# Altium integrated library Texas Instruments Interface Equalizer and Redriver.IntLib: 53 symbols (part 3 of 4)
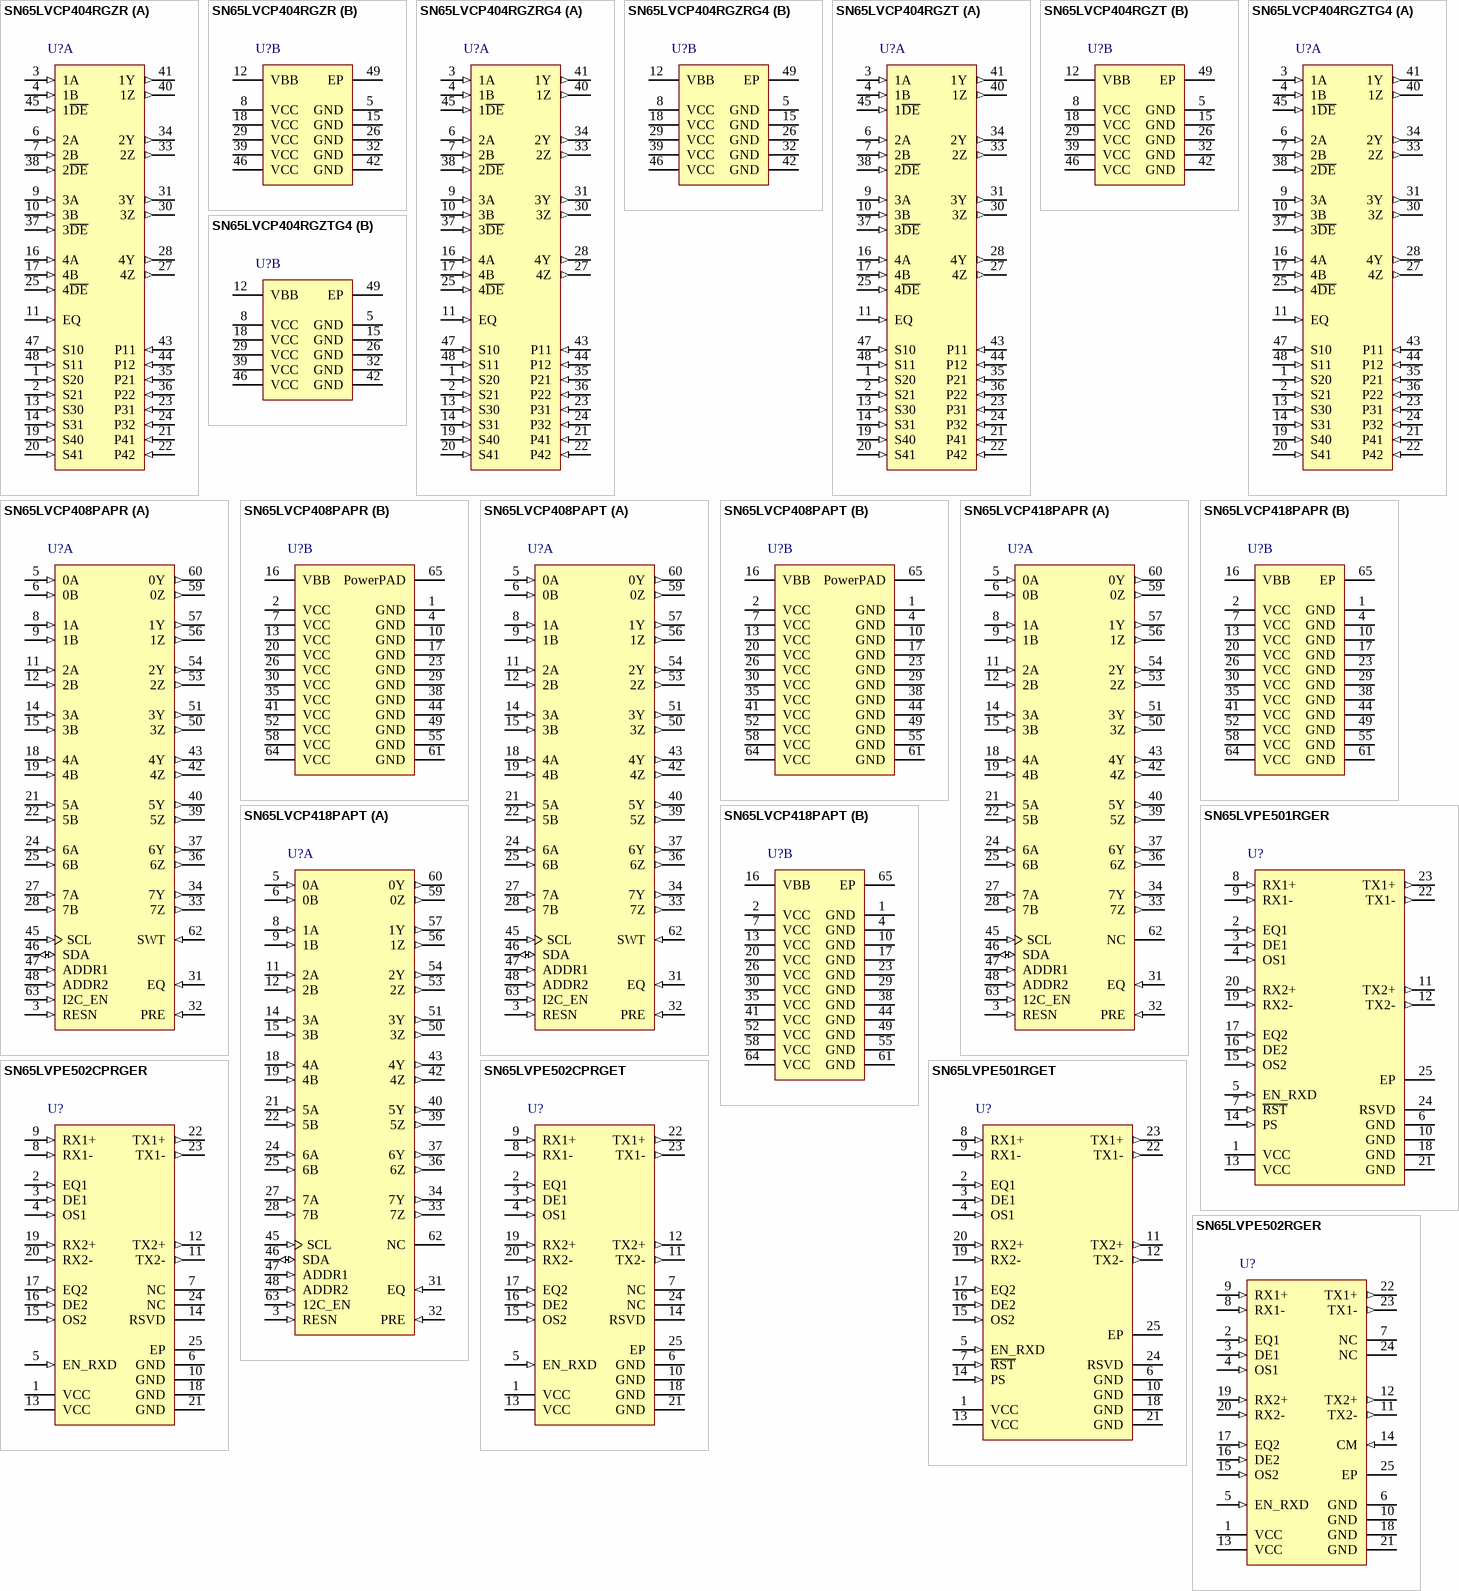
[diagram p4: symbols SN65LVCP404RGZR to SN65LVPE502RGER]

## SN65LVPE502CPRGET
designator U?
Dual Channel USB3.0 Redriver / Equalizer, 5 Gbps, 3.3V, 0 to 85 degC, 24-Pin VQFN (RGE), Green (RoHS & no Sb/Br); PartNumber: SN65LVPE502CPRGET; Manufacturer: Texas Instruments; Speed(Max)(Gbps): 5; Number of Channels: 2; SupplyVoltage(Volt): 3.3; ICC(Max)(mA): 120; IN SigCon: EQ; OUT SigCon: DE; Input Compatibility: AC-Coupled, CML; Function: Repeater, Redriver, Equalizer"; DatasheetVersion: SLLSE79B; PackageVersion: revG, Jul-2011; PackageReference: RGE24-2100X2100TP; PackageDescription: 24-Pin Plastic Quad Flatpack No-Lead, 4 x 4 mm Body, 0.5 mm Pitch; Mounting Technology: Surface Mount; Eco-Plan: Green (RoHS & no Sb/Br); Protocols: USB 3.0; Output Compatibility: AC-Coupled, CML; ESD HBM(kV): 5; Sleep Mode Power(mW): 5; Code_JEDEC: MO-220; ComponentLink1Description: Datasheet; ComponentLink1URL: http://www.ti.com/general/docs/lit/getliterature.tsp?genericPartNumber=SN65LVPE502CP&fileType=pdf; ComponentLink2Description: Package Specification; ComponentLink2URL: http://www.ti.com/litv/pdf/mpqf124f
footprint RGE24-2100X2100TP (QFN, 24-Leads, Body 4x4mm, Pitch 0.5mm, Thermal Pad 2.1x2.1mm, TI Recommended)
pins: 1 VCC (power) "Positive supply should be 3.3V +/- 10%", 2 EQ1 (in) "Selects equalization settings for CH 1 and CH 2 per Table 2. Internally tied to Vcc/2", 3 DE1 (in) "Selects de-emphasis settings for CH 1 and CH 2 per Table 2. Internally tied to Vcc/2", 4 OS1 (in) "Selects output amplitude for CH 1 and CH 2 per Table 2. Internally tied to Vcc/2", 5 EN_RXD (in) "Sets device operation modes per Table 2. Internally pulled to VCC", 6 GND (power) "Supply ground", 7 NC "Pads are not internally connected", 8 RX1- (in) "Non-inverting and inverting CML differential input for CH 1 and CH 2. These pins are tied to an internal voltage bias by dual termination resistor circuit.", 9 RX1+ (in) "Non-inverting and inverting CML differential input for CH 1 and CH 2. These pins are tied to an internal voltage bias by dual termination resistor circuit.", 10 GND (power) "Supply ground", 11 TX2- (out) "Non-inverting and inverting VML differential output for CH 1 and CH 2. These pins are internally tied to voltage bias by termination resistors.", 12 TX2+ (out) "Non-inverting and inverting VML differential output for CH 1 and CH 2. These pins are internally tied to voltage bias by termination resistors.", 13 VCC (power) "Positive supply should be 3.3V +/- 10%", 14 RSVD "RSVD, internally pulled to GND. Can be left as No-connect.", 15 OS2 (in) "Selects output amplitude for CH 1 and CH 2 per Table 2. Internally tied to Vcc/2", 16 DE2 (in) "Selects de-emphasis settings for CH 1 and CH 2 per Table 2. Internally tied to Vcc/2", 17 EQ2 (in) "Selects equalization settings for CH 1 and CH 2 per Table 2. Internally tied to Vcc/2", 18 GND (power) "Supply ground", 19 RX2+ (in) "Non-inverting and inverting CML differential input for CH 1 and CH 2. These pins are tied to an internal voltage bias by dual termination resistor circuit.", 20 RX2- (in) "Non-inverting and inverting CML differential input for CH 1 and CH 2. These pins are tied to an internal voltage bias by dual termination resistor circuit.", 21 GND (power) "Supply ground", 22 TX1+ (out) "Non-inverting and inverting VML differential output for CH 1 and CH 2. These pins are internally tied to voltage bias by termination resistors.", 23 TX1- (out) "Non-inverting and inverting VML differential output for CH 1 and CH 2. These pins are internally tied to voltage bias by termination resistors.", 24 NC "Pads are not internally connected", 25 EP (power) "Thermal Pad  (must be soldered to GND plane)"

## SN65LVPE502RGER
designator U?
Dual Channel USB3.0 Redriver / Equalizer, 5 Gbps, 2 Channel, 3.3V, 0 to 85 degC, 24-Pin VQFN (RGE),Green (RoHS & no Sb/Br); PartNumber: SN65LVPE502RGER; Manufacturer: Texas Instruments; Speed(Max)(Gbps): 5; Number of Channels: 2; SupplyVoltage(Volt): 3.3; ICC(Max)(mA): 120; IN SigCon: EQ; OUT SigCon: DE; Input Compatibility: AC-Coupled, CML; Function: Repeater, Redriver, Equalizer"; DatasheetVersion: SLLSE29A; PackageVersion: revG, Jul-2011; PackageReference: RGE24-2100X2100TP; PackageDescription: 24-Pin Plastic Quad Flatpack No-Lead, 4 x 4 mm Body, 0.5 mm Pitch; Mounting Technology: Surface Mount; Eco-Plan: Green (RoHS & no Sb/Br); Protocols: USB 3.0; Output Compatibility: AC-Coupled, CML; ESD HBM(kV): 5; Sleep Mode Power(mW): 5; Code_JEDEC: MO-220; ComponentLink1Description: Datasheet; ComponentLink1URL: http://www.ti.com/general/docs/lit/getliterature.tsp?genericPartNumber=SN65LVPE502&fileType=pdf; ComponentLink2Description: Package Specification; ComponentLink2URL: http://www.ti.com/litv/pdf/mpqf124f
footprint RGE24-2100X2100TP (QFN, 24-Leads, Body 4x4mm, Pitch 0.5mm, Thermal Pad 2.1x2.1mm, TI Recommended)
pins: 1 VCC (power) "Positive supply should be 3.3V '+/- 10%", 2 EQ1 (in) "Selects equalization settings for CH 1 and CH 2 per Table 2. Internally tied to VCC/2", 3 DE1 (in) "Selects de-emphasis settings for CH 1 and CH 2 per Table 2. Internally tied to VCC/2", 4 OS1 (in) "Selects output amplitude for CH 1 and CH 2 per Table 2. Internally tied to VCC/2", 5 EN_RXD (in) "Sets device operation modes per Table 2. Internally pulled to VCC", 6 GND (power) "Supply ground", 7 NC "Pads not internally connected", 8 RX1- (in) "Non-inverting and inverting CML differential input for CH 1 and CH 2. These pins are tied to  an internal voltage bias by dual termination resistor circuit", 9 RX1+ (in) "Non-inverting and inverting CML differential input for CH 1 and CH 2. These pins are tied to  an internal voltage bias by dual termination resistor circuit", 10 GND (power) "Supply ground", 11 TX2- (out) "Non-inverting and inverting VML differential output for CH 1 and CH 2. These pins are  internally tied to voltage bias by termination resistors", 12 TX2+ (out) "Non-inverting and inverting VML differential output for CH 1 and CH 2. These pins are  internally tied to voltage bias by termination resistors", 13 VCC (power) "Positive supply should be 3.3V '+/- 10%", 14 CM (in) "Sets device in compliance mode when pulled to VCC, internally pulled to GND", 15 OS2 (in) "Selects output amplitude for CH 1 and CH 2 per Table 2. Internally tied to VCC/2", 16 DE2 (in) "Selects de-emphasis settings for CH 1 and CH 2 per Table 2. Internally tied to VCC/2", 17 EQ2 (in) "Selects equalization settings for CH 1 and CH 2 per Table 2. Internally tied to VCC/2", 18 GND (power) "Supply ground", 19 RX2+ (in) "Non-inverting and inverting CML differential input for CH 1 and CH 2. These pins are tied to  an internal voltage bias by dual termination resistor circuit", 20 RX2- (in) "Non-inverting and inverting CML differential input for CH 1 and CH 2. These pins are tied to  an internal voltage bias by dual termination resistor circuit", 21 GND (power) "Supply ground", 22 TX1+ (out) "Non-inverting and inverting VML differential output for CH 1 and CH 2. These pins are  internally tied to voltage bias by termination resistors", 23 TX1- (out) "Non-inverting and inverting VML differential output for CH 1 and CH 2. These pins are  internally tied to voltage bias by termination resistors", 24 NC "Pads not internally connected", 25 EP "Thermal Pad(must be soldered to GND plane)"

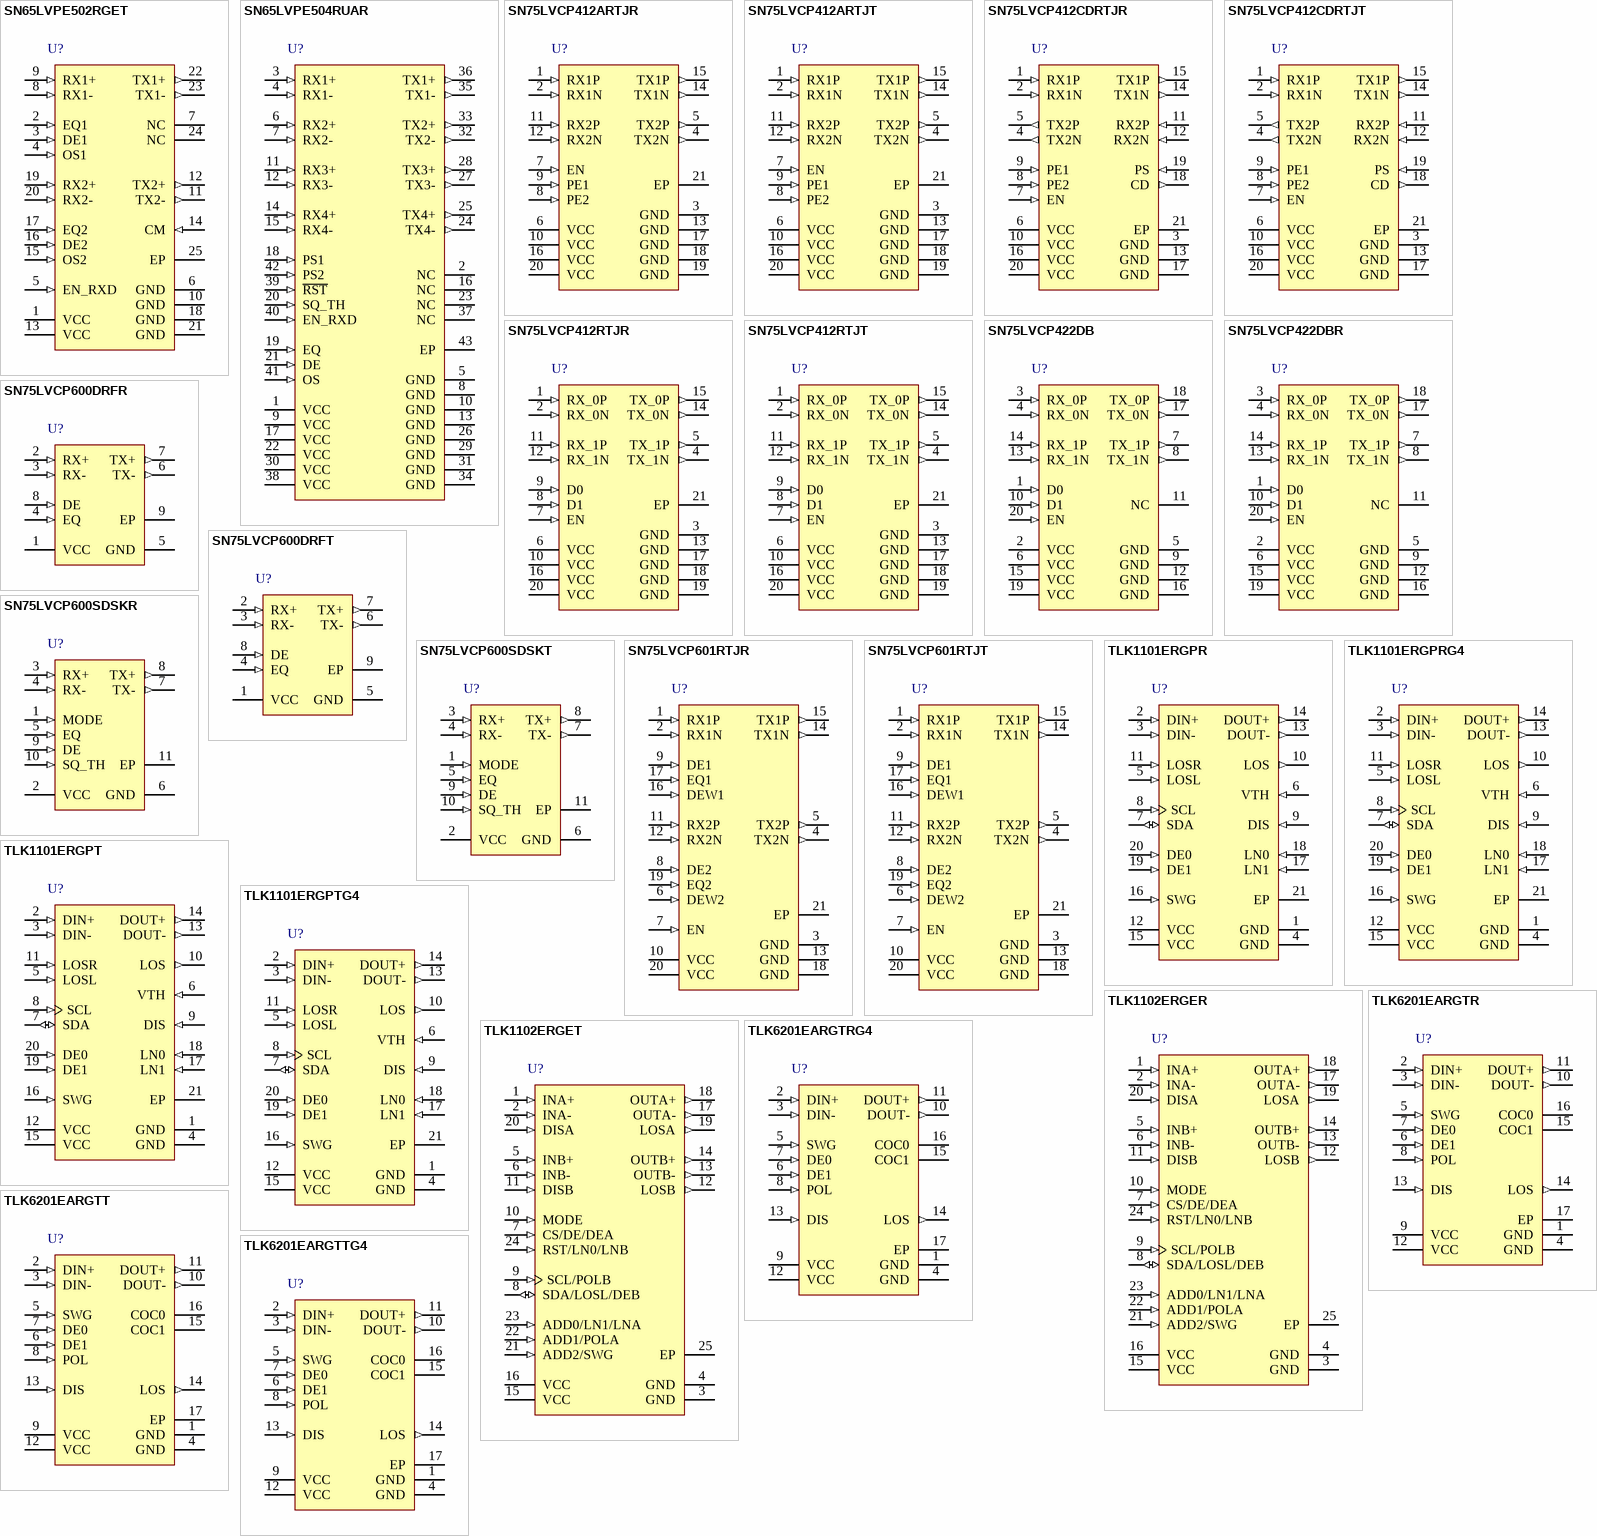
[diagram p2: symbols SN65LVPE502RGET to TLK6201EARGTTG4]

## SN65LVPE502RGET
designator U?
Dual Channel USB3.0 Redriver / Equalizer, 5 Gbps, 2 Channel, 3.3V, 0 to 85 degC, 24-Pin VQFN (RGE),Green (RoHS & no Sb/Br); PartNumber: SN65LVPE502RGET; Manufacturer: Texas Instruments; Speed(Max)(Gbps): 5; Number of Channels: 2; SupplyVoltage(Volt): 3.3; ICC(Max)(mA): 120; IN SigCon: EQ; OUT SigCon: DE; Input Compatibility: AC-Coupled, CML; Function: Repeater, Redriver, Equalizer"; DatasheetVersion: SLLSE29A; PackageVersion: revG, Jul-2011; PackageReference: RGE24-2100X2100TP; PackageDescription: 24-Pin Plastic Quad Flatpack No-Lead, 4 x 4 mm Body, 0.5 mm Pitch; Mounting Technology: Surface Mount; Eco-Plan: Green (RoHS & no Sb/Br); Protocols: USB 3.0; Output Compatibility: AC-Coupled, CML; ESD HBM(kV): 5; Sleep Mode Power(mW): 5; Code_JEDEC: MO-220; ComponentLink1Description: Datasheet; ComponentLink1URL: http://www.ti.com/general/docs/lit/getliterature.tsp?genericPartNumber=SN65LVPE502&fileType=pdf; ComponentLink2Description: Package Specification; ComponentLink2URL: http://www.ti.com/litv/pdf/mpqf124f
footprint RGE24-2100X2100TP (QFN, 24-Leads, Body 4x4mm, Pitch 0.5mm, Thermal Pad 2.1x2.1mm, TI Recommended)
pins: 1 VCC (power) "Positive supply should be 3.3V '+/- 10%", 2 EQ1 (in) "Selects equalization settings for CH 1 and CH 2 per Table 2. Internally tied to VCC/2", 3 DE1 (in) "Selects de-emphasis settings for CH 1 and CH 2 per Table 2. Internally tied to VCC/2", 4 OS1 (in) "Selects output amplitude for CH 1 and CH 2 per Table 2. Internally tied to VCC/2", 5 EN_RXD (in) "Sets device operation modes per Table 2. Internally pulled to VCC", 6 GND (power) "Supply ground", 7 NC "Pads not internally connected", 8 RX1- (in) "Non-inverting and inverting CML differential input for CH 1 and CH 2. These pins are tied to  an internal voltage bias by dual termination resistor circuit", 9 RX1+ (in) "Non-inverting and inverting CML differential input for CH 1 and CH 2. These pins are tied to  an internal voltage bias by dual termination resistor circuit", 10 GND (power) "Supply ground", 11 TX2- (out) "Non-inverting and inverting VML differential output for CH 1 and CH 2. These pins are  internally tied to voltage bias by termination resistors", 12 TX2+ (out) "Non-inverting and inverting VML differential output for CH 1 and CH 2. These pins are  internally tied to voltage bias by termination resistors", 13 VCC (power) "Positive supply should be 3.3V '+/- 10%", 14 CM (in) "Sets device in compliance mode when pulled to VCC, internally pulled to GND", 15 OS2 (in) "Selects output amplitude for CH 1 and CH 2 per Table 2. Internally tied to VCC/2", 16 DE2 (in) "Selects de-emphasis settings for CH 1 and CH 2 per Table 2. Internally tied to VCC/2", 17 EQ2 (in) "Selects equalization settings for CH 1 and CH 2 per Table 2. Internally tied to VCC/2", 18 GND (power) "Supply ground", 19 RX2+ (in) "Non-inverting and inverting CML differential input for CH 1 and CH 2. These pins are tied to  an internal voltage bias by dual termination resistor circuit", 20 RX2- (in) "Non-inverting and inverting CML differential input for CH 1 and CH 2. These pins are tied to  an internal voltage bias by dual termination resistor circuit", 21 GND (power) "Supply ground", 22 TX1+ (out) "Non-inverting and inverting VML differential output for CH 1 and CH 2. These pins are  internally tied to voltage bias by termination resistors", 23 TX1- (out) "Non-inverting and inverting VML differential output for CH 1 and CH 2. These pins are  internally tied to voltage bias by termination resistors", 24 NC "Pads not internally connected", 25 EP "Thermal Pad(must be soldered to GND plane)"

## SN65LVPE504RUAR
designator U?
Quad Channel (Half X4 Lane) PCle Redriver / Equalizer, 5 Gbps, 3.3V, -40 to 85 degC, 42-Pin WQFN (RUA), Green (RoHS & no Sb/Br); PartNumber: SN65LVPE504RUAR; Manufacturer: Texas Instruments; Protocols: PCIe; Speed(Max)(Gbps): 5; Number of Channels: 4; SupplyVoltage(Volt): 3.3; ICC(Max)(mA): 220; IN SigCon: EQ; OUT SigCon: DE; Input Compatibility: AC-Coupled, CML; ESD HBM(kV): 6; Sleep Mode Power(mW): 7; Function: Repeater, Redriver, Equalizer"; DatasheetVersion: SLLSE46; PackageVersion: revC, Jun-2011; PackageReference: RUA42-7550X2050TP; PackageDescription: 42-Leads Plastic Quad Flatpack No-Lead, 9 x 3.5 x 0.75 mm Body, 0.5 mm Pitch; Mounting Technology: Surface Mount; Eco-Plan: Green (RoHS & no Sb/Br); Output Compatibility: AC-Coupled, CML; ComponentLink1Description: Datasheet; ComponentLink1URL: http://www.ti.com/general/docs/lit/getliterature.tsp?genericPartNumber=SN65LVPE504&fileType=pdf; ComponentLink2Description: Package Specification; ComponentLink2URL: http://www.ti.com/litv/pdf/mpqf210b
footprint RUA42-7550X2050TP (QFN, 42-Leads, Body 3.5x9mm, Pitch 0.5mm, Thermal Pad 2.05x7.55mm, TI Recommended)
pins: 1 VCC (power) "Positive supply should be 3.3V +/- 10%", 2 NC, 3 RX1+ (in) "Non-inverting and inverting CML differential input for CH 1 and CH 4. These pins are tied to an internal voltage bias by dual termination resistor circuit.", 4 RX1- (in) "Non-inverting and inverting CML differential input for CH 1 and CH 4. These pins are tied to an internal voltage bias by dual termination resistor circuit.", 5 GND (power) "Supply ground", 6 RX2+ (in) "Non-inverting and inverting CML differential input for CH 1 and CH 4. These pins are tied to an internal voltage bias by dual termination resistor circuit.", 7 RX2- (in) "Non-inverting and inverting CML differential input for CH 1 and CH 4. These pins are tied to an internal voltage bias by dual termination resistor circuit.", 8 GND (power) "Supply ground", 9 VCC (power) "Positive supply should be 3.3V +/- 10%", 10 GND (power) "Supply ground", 11 RX3+ (in) "Non-inverting and inverting CML differential input for CH 1 and CH 4. These pins are tied to an internal voltage bias by dual termination resistor circuit.", 12 RX3- (in) "Non-inverting and inverting CML differential input for CH 1 and CH 4. These pins are tied to an internal voltage bias by dual termination resistor circuit.", 13 GND (power) "Supply ground", 14 RX4+ (in) "Non-inverting and inverting CML differential input for CH 1 and CH 4. These pins are tied to an internal voltage bias by dual termination resistor circuit.", 15 RX4- (in) "Non-inverting and inverting CML differential input for CH 1 and CH 4. These pins are tied to an internal voltage bias by dual termination resistor circuit.", 16 NC, 17 VCC (power) "Positive supply should be 3.3V +/- 10%", 18 PS1 (in) "Select auto-low power save mode per Table 1. Internally pulled to GND", 19 EQ (in) "Selects equalization settings for CH 1-CH 4 per Table 1. Internally pulled to Vcc/2", 20 SQ_TH (in) "Squelch threshold level select pin for electrical idle detect per Table 1 Internally pulled to VCC/2", 21 DE (in) "Selects de-emphasis settings for CH 1-CH 4 per Table 1. Internally pulled to Vcc/2", 22 VCC (power) "Positive supply should be 3.3V +/- 10%", 23 NC, 24 TX4- (out) "Non-inverting and inverting CML differential output for CH 1 and CH 4. These pins are internally tied to voltage bias by termination resistors.", 25 TX4+ (out) "Non-inverting and inverting CML differential output for CH 1 and CH 4. These pins are internally tied to voltage bias by termination resistors.", 26 GND (power) "Supply ground", 27 TX3- (out) "Non-inverting and inverting CML differential output for CH 1 and CH 4. These pins are internally tied to voltage bias by termination resistors.", 28 TX3+ (out) "Non-inverting and inverting CML differential output for CH 1 and CH 4. These pins are internally tied to voltage bias by termination resistors.", 29 GND (power) "Supply ground", 30 VCC (power) "Positive supply should be 3.3V +/- 10%", 31 GND (power) "Supply ground", 32 TX2- (out) "Non-inverting and inverting CML differential output for CH 1 and CH 4. These pins are internally tied to voltage bias by termination resistors.", 33 TX2+ (out) "Non-inverting and inverting CML differential output for CH 1 and CH 4. These pins are internally tied to voltage bias by termination resistors.", 34 GND (power) "Supply ground", 35 TX1- (out) "Non-inverting and inverting CML differential output for CH 1 and CH 4. These pins are internally tied to voltage bias by termination resistors.", 36 TX1+ (out) "Non-inverting and inverting CML differential output for CH 1 and CH 4. These pins are internally tied to voltage bias by termination resistors.", 37 NC, 38 VCC (power) "Positive supply should be 3.3V +/- 10%", 39 ~{RST} (in) "Reset device, input active Low. Internally pulled to VCC", 40 EN_RXD (in) "Sets device operation modes per Table 1. Internally pulled to VCC", 41 OS (in) "Selects output amplitude for CH 1-CH 4 per Table 1. Internally pulled to Vcc/2", 42 PS2 (in) "Tying pin to VCC slaves CH2-4 electrical idle and Rx.Detect function to CH1. Internally pulled to GND", 43 EP "Exposed Thermal Pad"

## SN75LVCP412ARTJR
designator U?
Two Channel SATA 3 Gbps Redriver, 0 to 85 degC, 20-Pin QFN (RTJ), Green (RoHS & no Sb/Br); PartNumber: SN75LVCP412ARTJR; Manufacturer: Texas Instruments; Speed(Max)(Gbps): 3; Number of Channels: 2; ICC(Max)(mA): 78; ESD HBM(kV): 8; Sleep Mode Power(mW): 2.1; Function: Redriver/Equalizer; DatasheetVersion: SLLSE62; PackageVersion: revF, Jul-2011; PackageReference: RTJ20-2150X2150TP; PackageDescription: 20-Pin Plastic Quad Flatpack No-Lead, 4 x 4 mm Body, 0.5 mm Pitch; Mounting Technology: Surface Mount; Eco-Plan: Green (RoHS & no Sb/Br); Protocols: SATA; ComponentLink1Description: Datasheet; ComponentLink1URL: http://www.ti.com/general/docs/lit/getliterature.tsp?genericPartNumber=SN75LVCP412A&fileType=pdf; ComponentLink2Description: Package Specification; ComponentLink2URL: http://www.ti.com/lit/ml/mpqf156e/mpqf156e.pdf
footprint RTJ20-2150X2150TP (QFN, 20-Leads, Body 4x4mm, Pitch 0.5mm, Thermal Pad 2.15x2.15mm, TI Recommended)
pins: 1 RX1P (in) "Non-inverting and inverting CML differential input for CH 1 and CH 2. These pins are tied to an internal voltage bias by dual termination resistor circuit.", 2 RX1N (in) "Non-inverting and inverting CML differential input for CH 1 and CH 2. These pins are tied to an internal voltage bias by dual termination resistor circuit.", 3 GND (power) "Supply ground", 4 TX2N (out) "Non-inverting and inverting CML differential output for CH 1 and CH 2. These pins are internally tied to voltage bias by termination resistors.", 5 TX2P (out) "Non-inverting and inverting CML differential output for CH 1 and CH 2. These pins are internally tied to voltage bias by termination resistors.", 6 VCC (power) "Positive supply should be 3.3V +/- 10%", 7 EN (in) "Device enable pin. Internally PU to VCC", 8 PE2 (in) "Selects pre-emphasis settings for CH 1 and CH 2 perTable 2. Internally PD to GND", 9 PE1 (in) "Selects pre-emphasis settings for CH 1 and CH 2 perTable 2. Internally PD to GND", 10 VCC (power) "Positive supply should be 3.3V +/- 10%", 11 RX2P (in) "Non-inverting and inverting CML differential input for CH 1 and CH 2. These pins are tied to an internal voltage bias by dual termination resistor circuit.", 12 RX2N (in) "Non-inverting and inverting CML differential input for CH 1 and CH 2. These pins are tied to an internal voltage bias by dual termination resistor circuit.", 13 GND (power) "Supply ground", 14 TX1N (out) "Non-inverting and inverting CML differential output for CH 1 and CH 2. These pins are internally tied to voltage bias by termination resistors.", 15 TX1P (out) "Non-inverting and inverting CML differential output for CH 1 and CH 2. These pins are internally tied to voltage bias by termination resistors.", 16 VCC (power) "Positive supply should be 3.3V +/- 10%", 17 GND (power) "Supply ground", 18 GND (power) "Supply ground", 19 GND (power) "Supply ground", 20 VCC (power) "Positive supply should be 3.3V +/- 10%", 21 EP (power) "Exposed Thermal Pad"

## SN75LVCP412ARTJT
designator U?
Two Channel SATA 3 Gbps Redriver, 0 to 85 degC, 20-Pin QFN (RTJ), Green (RoHS & no Sb/Br); PartNumber: SN75LVCP412ARTJT; Manufacturer: Texas Instruments; Speed(Max)(Gbps): 3; Number of Channels: 2; ICC(Max)(mA): 78; ESD HBM(kV): 8; Sleep Mode Power(mW): 2.1; Function: Redriver/Equalizer; DatasheetVersion: SLLSE62; PackageVersion: revF, Jul-2011; PackageReference: RTJ20-2150X2150TP; PackageDescription: 20-Pin Plastic Quad Flatpack No-Lead, 4 x 4 mm Body, 0.5 mm Pitch; Mounting Technology: Surface Mount; Eco-Plan: Green (RoHS & no Sb/Br); Protocols: SATA; ComponentLink1Description: Datasheet; ComponentLink1URL: http://www.ti.com/general/docs/lit/getliterature.tsp?genericPartNumber=SN75LVCP412A&fileType=pdf; ComponentLink2Description: Package Specification; ComponentLink2URL: http://www.ti.com/lit/ml/mpqf156e/mpqf156e.pdf
footprint RTJ20-2150X2150TP (QFN, 20-Leads, Body 4x4mm, Pitch 0.5mm, Thermal Pad 2.15x2.15mm, TI Recommended)
pins: 1 RX1P (in) "Non-inverting and inverting CML differential input for CH 1 and CH 2. These pins are tied to an internal voltage bias by dual termination resistor circuit.", 2 RX1N (in) "Non-inverting and inverting CML differential input for CH 1 and CH 2. These pins are tied to an internal voltage bias by dual termination resistor circuit.", 3 GND (power) "Supply ground", 4 TX2N (out) "Non-inverting and inverting CML differential output for CH 1 and CH 2. These pins are internally tied to voltage bias by termination resistors.", 5 TX2P (out) "Non-inverting and inverting CML differential output for CH 1 and CH 2. These pins are internally tied to voltage bias by termination resistors.", 6 VCC (power) "Positive supply should be 3.3V +/- 10%", 7 EN (in) "Device enable pin. Internally PU to VCC", 8 PE2 (in) "Selects pre-emphasis settings for CH 1 and CH 2 perTable 2. Internally PD to GND", 9 PE1 (in) "Selects pre-emphasis settings for CH 1 and CH 2 perTable 2. Internally PD to GND", 10 VCC (power) "Positive supply should be 3.3V +/- 10%", 11 RX2P (in) "Non-inverting and inverting CML differential input for CH 1 and CH 2. These pins are tied to an internal voltage bias by dual termination resistor circuit.", 12 RX2N (in) "Non-inverting and inverting CML differential input for CH 1 and CH 2. These pins are tied to an internal voltage bias by dual termination resistor circuit.", 13 GND (power) "Supply ground", 14 TX1N (out) "Non-inverting and inverting CML differential output for CH 1 and CH 2. These pins are internally tied to voltage bias by termination resistors.", 15 TX1P (out) "Non-inverting and inverting CML differential output for CH 1 and CH 2. These pins are internally tied to voltage bias by termination resistors.", 16 VCC (power) "Positive supply should be 3.3V +/- 10%", 17 GND (power) "Supply ground", 18 GND (power) "Supply ground", 19 GND (power) "Supply ground", 20 VCC (power) "Positive supply should be 3.3V +/- 10%", 21 EP (power) "Exposed Thermal Pad"

## SN75LVCP412CDRTJR
designator U?
Two Channel SATA 3 Gbps Redriver with Cable Detect, 3 Gbps, 2 Channels, 0 to 85 degC, 20-Pin QFN (RTJ), Green (RoHS & no Sb/Br); PartNumber: SN75LVCP412CDRTJR; Manufacturer: Texas Instruments; Speed(Max)(Gbps): 3; Number of Channels: 2; ICC(Max)(mA): 78; ESD HBM(kV): 12; DatasheetVersion: SLLSE62; PackageVersion: revF, Jul-2011; PackageReference: RTJ20-2150X2150TP; PackageDescription: 20-Pin Plastic Quad Flatpack No-Lead, 4 x 4 mm Body, 0.5 mm Pitch; Mounting Technology: Surface Mount; Eco-Plan: Green (RoHS & no Sb/Br); Protocols: SATA; Sleep Mode Power(mW): 2; Function: Redriver; ComponentLink1Description: Datasheet; ComponentLink1URL: http://www.ti.com/general/docs/lit/getliterature.tsp?genericPartNumber=SN75LVCP412CD&fileType=pdf; ComponentLink2Description: Package Specification; ComponentLink2URL: http://www.ti.com/lit/ml/mpqf156e/mpqf156e.pdf
footprint RTJ20-2150X2150TP (QFN, 20-Leads, Body 4x4mm, Pitch 0.5mm, Thermal Pad 2.15x2.15mm, TI Recommended)
pins: 1 RX1P (in) "Non-inverting and inverting CML differential inputs for CH 1 and CH 2. These pins are tied to an internal voltage bias by dual termination resistor circuit.", 2 RX1N (in) "Non-inverting and inverting CML differential inputs for CH 1 and CH 2. These pins are tied to an internal voltage bias by dual termination resistor circuit.", 3 GND (power) "Supply ground", 4 TX2N (out) "Non-inverting and inverting CML differential outputs for CH 1 and CH 2. These pins are internally tied to voltage bias by termination resistors", 5 TX2P (out) "Non-inverting and inverting CML differential outputs for CH 1 and CH 2. These pins are internally tied to voltage bias by termination resistors", 6 VCC (power) "Positive supply, should be 3.3V +/-10%", 7 EN (in) "Device enable pin. Internally PU to VCC.", 8 PE2 (in) "Selects pre-emphasis settings for CH 1 and CH 2 per Table 4. Internally PD to GND", 9 PE1 (in) "Selects pre-emphasis settings for CH 1 and CH 2 per Table 4. Internally PD to GND", 10 VCC (power) "Positive supply, should be 3.3V +/-10%", 11 RX2P (in) "Non-inverting and inverting CML differential inputs for CH 1 and CH 2. These pins are tied to an internal voltage bias by dual termination resistor circuit.", 12 RX2N (in) "Non-inverting and inverting CML differential inputs for CH 1 and CH 2. These pins are tied to an internal voltage bias by dual termination resistor circuit.", 13 GND (power) "Supply ground", 14 TX1N (out) "Non-inverting and inverting CML differential outputs for CH 1 and CH 2. These pins are internally tied to voltage bias by termination resistors.", 15 TX1P (out) "Non-inverting and inverting CML differential outputs for CH 1 and CH 2. These pins are internally tied to voltage bias by termination resistors.", 16 VCC (power) "Positive supply, should be 3.3V +/-10%", 17 GND (power) "Supply ground", 18 CD (out) "Indicates presence or absence of external HDD attachment to LVCP412CD (via eSATA connector)", 19 PS (in) "Selects/de-selects cable detect feature of device. Internally PU to VCC.", 20 VCC (power) "Positive supply, should be 3.3V +/-10%", 21 EP (power) "Exposed Thermal Pad"

## SN75LVCP412CDRTJT
designator U?
Two Channel SATA 3 Gbps Redriver with Cable Detect, 0 to 85 degC, 20-Pin WQFN (RTJ), Green (RoHS & no Sb/Br); PartNumber: SN75LVCP412CDRTJT; Manufacturer: Texas Instruments; Speed(Max)(Gbps): 3; Number of Channels: 2; ICC(Max)(mA): 78; ESD HBM(kV): 12; DatasheetVersion: SLLSE62; PackageVersion: revF, Jul-2011; PackageReference: RTJ20-2150X2150TP; PackageDescription: 20-Pin Plastic Quad Flatpack No-Lead, 4 x 4 mm Body, 0.5 mm Pitch; Mounting Technology: Surface Mount; Eco-Plan: Green (RoHS & no Sb/Br); Protocols: SATA; Sleep Mode Power(mW): 2; Function: Redriver; ComponentLink1Description: Datasheet; ComponentLink1URL: http://www.ti.com/general/docs/lit/getliterature.tsp?genericPartNumber=SN75LVCP412CD&fileType=pdf; ComponentLink2Description: Package Specification; ComponentLink2URL: http://www.ti.com/lit/ml/mpqf156e/mpqf156e.pdf
footprint RTJ20-2150X2150TP (QFN, 20-Leads, Body 4x4mm, Pitch 0.5mm, Thermal Pad 2.15x2.15mm, TI Recommended)
pins: 1 RX1P (in) "Non-inverting and inverting CML differential inputs for CH 1 and CH 2. These pins are tied to an internal voltage bias by dual termination resistor circuit.", 2 RX1N (in) "Non-inverting and inverting CML differential inputs for CH 1 and CH 2. These pins are tied to an internal voltage bias by dual termination resistor circuit.", 3 GND (power) "Supply ground", 4 TX2N (out) "Non-inverting and inverting CML differential outputs for CH 1 and CH 2. These pins are internally tied to voltage bias by termination resistors", 5 TX2P (out) "Non-inverting and inverting CML differential outputs for CH 1 and CH 2. These pins are internally tied to voltage bias by termination resistors", 6 VCC (power) "Positive supply, should be 3.3V +/-10%", 7 EN (in) "Device enable pin. Internally PU to VCC.", 8 PE2 (in) "Selects pre-emphasis settings for CH 1 and CH 2 per Table 4. Internally PD to GND", 9 PE1 (in) "Selects pre-emphasis settings for CH 1 and CH 2 per Table 4. Internally PD to GND", 10 VCC (power) "Positive supply, should be 3.3V +/-10%", 11 RX2P (in) "Non-inverting and inverting CML differential inputs for CH 1 and CH 2. These pins are tied to an internal voltage bias by dual termination resistor circuit.", 12 RX2N (in) "Non-inverting and inverting CML differential inputs for CH 1 and CH 2. These pins are tied to an internal voltage bias by dual termination resistor circuit.", 13 GND (power) "Supply ground", 14 TX1N (out) "Non-inverting and inverting CML differential outputs for CH 1 and CH 2. These pins are internally tied to voltage bias by termination resistors.", 15 TX1P (out) "Non-inverting and inverting CML differential outputs for CH 1 and CH 2. These pins are internally tied to voltage bias by termination resistors.", 16 VCC (power) "Positive supply, should be 3.3V +/-10%", 17 GND (power) "Supply ground", 18 CD (out) "Indicates presence or absence of external HDD attachment to LVCP412CD (via eSATA connector)", 19 PS (in) "Selects/de-selects cable detect feature of device. Internally PU to VCC.", 20 VCC (power) "Positive supply, should be 3.3V +/-10%", 21 EP (power) "Exposed Thermal Pad"

## SN75LVCP412RTJR
designator U?
Two Channel SATA 3 Gbps Redriver, 0 to 85 degC, 20-Pin QFN (RTJ), Green (RoHS & no Sb/Br); PartNumber: SN75LVCP412RTJR; Manufacturer: Texas Instruments; Speed(Max)(Gbps): 3; Number of Channels: 2; ICC(Max)(mA): 70; ESD HBM(kV): 8; Sleep Mode Power(mW): 5; Function: Repeater; DatasheetVersion: SLLSE62; PackageVersion: revF, Jul-2011; PackageReference: RTJ20-2150X2150TP; PackageDescription: 20-Pin Plastic Quad Flatpack No-Lead, 4 x 4 mm Body, 0.5 mm Pitch; Mounting Technology: Surface Mount; Eco-Plan: Green (RoHS & no Sb/Br); Protocols: SATA; ComponentLink1Description: Datasheet; ComponentLink1URL: http://www.ti.com/general/docs/lit/getliterature.tsp?genericPartNumber=SN75LVCP412&fileType=pdf; ComponentLink2Description: Package Specification; ComponentLink2URL: http://www.ti.com/lit/ml/mpqf156e/mpqf156e.pdf
footprint RTJ20-2150X2150TP (QFN, 20-Leads, Body 4x4mm, Pitch 0.5mm, Thermal Pad 2.15x2.15mm, TI Recommended)
pins: 1 RX_0P (in) "Input 0, non-inverting", 2 RX_0N (in) "Input 0, inverting", 3 GND (power) "Ground", 4 TX_1N (out) "Output 1, inverting", 5 TX_1P (out) "Output 1, non-inverting", 6 VCC (power) "Power", 7 EN (in) "Enable", 8 D1 (in) "Pre-emphasis_1", 9 D0 (in) "Pre-emphasis _0", 10 VCC (power) "Power", 11 RX_1P (in) "Input 1, non-inverting", 12 RX_1N (in) "Input 1, inverting", 13 GND (power) "Ground", 14 TX_0N (out) "Output 0, inverting", 15 TX_0P (out) "Output 0, non-inverting", 16 VCC (power) "Power", 17 GND (power) "Ground", 18 GND (power) "Ground", 19 GND (power) "Ground", 20 VCC (power) "Power", 21 EP (power) "Exposed Thermal Pad (EP) must be grounded."

## SN75LVCP412RTJT
designator U?
Two Channel SATA 3 Gbps Redriver, 0 to 85 degC, 20-Pin QFN (RTJ), Green (RoHS & no Sb/Br); PartNumber: SN75LVCP412RTJT; Manufacturer: Texas Instruments; Speed(Max)(Gbps): 3; Number of Channels: 2; ICC(Max)(mA): 70; ESD HBM(kV): 8; Sleep Mode Power(mW): 5; Function: Repeater; DatasheetVersion: SLLSE62; PackageVersion: revF, Jul-2011; PackageReference: RTJ20-2150X2150TP; PackageDescription: 20-Pin Plastic Quad Flatpack No-Lead, 4 x 4 mm Body, 0.5 mm Pitch; Mounting Technology: Surface Mount; Eco-Plan: Green (RoHS & no Sb/Br); Protocols: SATA; ComponentLink1Description: Datasheet; ComponentLink1URL: http://www.ti.com/general/docs/lit/getliterature.tsp?genericPartNumber=SN75LVCP412&fileType=pdf; ComponentLink2Description: Package Specification; ComponentLink2URL: http://www.ti.com/lit/ml/mpqf156e/mpqf156e.pdf
footprint RTJ20-2150X2150TP (QFN, 20-Leads, Body 4x4mm, Pitch 0.5mm, Thermal Pad 2.15x2.15mm, TI Recommended)
pins: 1 RX_0P (in) "Input 0, non-inverting", 2 RX_0N (in) "Input 0, inverting", 3 GND (power) "Ground", 4 TX_1N (out) "Output 1, inverting", 5 TX_1P (out) "Output 1, non-inverting", 6 VCC (power) "Power", 7 EN (in) "Enable", 8 D1 (in) "Pre-emphasis_1", 9 D0 (in) "Pre-emphasis _0", 10 VCC (power) "Power", 11 RX_1P (in) "Input 1, non-inverting", 12 RX_1N (in) "Input 1, inverting", 13 GND (power) "Ground", 14 TX_0N (out) "Output 0, inverting", 15 TX_0P (out) "Output 0, non-inverting", 16 VCC (power) "Power", 17 GND (power) "Ground", 18 GND (power) "Ground", 19 GND (power) "Ground", 20 VCC (power) "Power", 21 EP (power) "Exposed Thermal Pad (EP) must be grounded."

## SN75LVCP422DB
designator U?
Two Channel SATA 3 Gbps Redriver, 0 to 85 degC, 20-Pin SSOP (DB), Green (RoHS & no Sb/Br); PartNumber: SN75LVCP422DB; Manufacturer: Texas Instruments; Speed(Max)(Gbps): 3; Number of Channels: 2; ICC(Max)(mA): 77; ESD HBM(kV): 8; Sleep Mode Power(mW): 5; Function: Repeater; DatasheetVersion: SLLS972; PackageVersion: revE, Dec-2001; PackageReference: DB20; PackageDescription: 20-Pin Plastic Small Outline Package, 7.2 x 5.3 mm Body, 0.65 mm Pitch; Mounting Technology: Surface Mount; Eco-Plan: Green (RoHS & no Sb/Br); Protocols: SATA; Code_JEDEC: MO-150; ComponentLink1Description: Datasheet; ComponentLink1URL: http://www.ti.com/general/docs/lit/getliterature.tsp?genericPartNumber=SN75LVCP422&fileType=pdf; ComponentLink2Description: Package Specification; ComponentLink2URL: http://www.ti.com/lit/ml/msso002e/msso002e.pdf
footprint DB20_N (SOP, 20-Leads, Body 7.2x5.3mm, Pitch 0.65mm, IPC Medium Density)
footprint DB20_L (SOP, 20-Leads, Body 7.2x5.3mm, Pitch 0.65mm, IPC High Density)
footprint DB20_M (SOP, 20-Leads, Body 7.2x5.3mm, Pitch 0.65mm, IPC Low Density)
pins: 1 D0 (in) "Pre-emphasis _0", 2 VCC (power) "Power", 3 RX_0P (in) "Input 0, non-inverting", 4 RX_0N (in) "Input 0, inverting", 5 GND (power) "Ground", 6 VCC (power) "Power", 7 TX_1P (out) "Output 1, inverting", 8 TX_1N (out) "Output 1, non-inverting", 9 GND (power) "Ground", 10 D1 (in) "Pre-emphasis_1", 11 NC "No connect", 12 GND (power) "Ground", 13 RX_1N (in) "Input 1, non-inverting", 14 RX_1P (in) "Input 1, inverting", 15 VCC (power) "Power", 16 GND (power) "Ground", 17 TX_0N (out) "Output 0, inverting", 18 TX_0P (out) "Output 0, non-inverting", 19 VCC (power) "Power", 20 EN (in) "Enable"

## SN75LVCP422DBR
designator U?
Two Channel SATA 3 Gbps Redriver, 0 to 85 degC, 20-Pin SSOP (DB), Green (RoHS & no Sb/Br); PartNumber: SN75LVCP422DBR; Manufacturer: Texas Instruments; Speed(Max)(Gbps): 3; Number of Channels: 2; ICC(Max)(mA): 77; ESD HBM(kV): 8; Sleep Mode Power(mW): 5; Function: Repeater; DatasheetVersion: SLLS972; PackageVersion: revE, Dec-2001; PackageReference: DB20; PackageDescription: 20-Pin Plastic Small Outline Package, 7.2 x 5.3 mm Body, 0.65 mm Pitch; Mounting Technology: Surface Mount; Eco-Plan: Green (RoHS & no Sb/Br); Protocols: SATA; Code_JEDEC: MO-150; ComponentLink1Description: Datasheet; ComponentLink1URL: http://www.ti.com/general/docs/lit/getliterature.tsp?genericPartNumber=SN75LVCP422&fileType=pdf; ComponentLink2Description: Package Specification; ComponentLink2URL: http://www.ti.com/lit/ml/msso002e/msso002e.pdf
footprint DB20_N (SOP, 20-Leads, Body 7.2x5.3mm, Pitch 0.65mm, IPC Medium Density)
footprint DB20_L (SOP, 20-Leads, Body 7.2x5.3mm, Pitch 0.65mm, IPC High Density)
footprint DB20_M (SOP, 20-Leads, Body 7.2x5.3mm, Pitch 0.65mm, IPC Low Density)
pins: 1 D0 (in) "Pre-emphasis _0", 2 VCC (power) "Power", 3 RX_0P (in) "Input 0, non-inverting", 4 RX_0N (in) "Input 0, inverting", 5 GND (power) "Ground", 6 VCC (power) "Power", 7 TX_1P (out) "Output 1, inverting", 8 TX_1N (out) "Output 1, non-inverting", 9 GND (power) "Ground", 10 D1 (in) "Pre-emphasis_1", 11 NC "No connect", 12 GND (power) "Ground", 13 RX_1N (in) "Input 1, non-inverting", 14 RX_1P (in) "Input 1, inverting", 15 VCC (power) "Power", 16 GND (power) "Ground", 17 TX_0N (out) "Output 0, inverting", 18 TX_0P (out) "Output 0, non-inverting", 19 VCC (power) "Power", 20 EN (in) "Enable"

## SN75LVCP600DRFR
designator U?
6.0 Gbps SATA PC Board and Cable Equalizer, 1 Channel, 0 to 85 degC, 8-Pin WSON (DRF), Green (RoHS & no Sb/Br); PartNumber: SN75LVCP600DRFR; Manufacturer: Texas Instruments; Speed(Max)(Gbps): 6; Number of Channels: 1; ICC(Max)(mA): 40; Function: Redriver; DatasheetVersion: SLLSE63; PackageVersion: revE, Oct-2010; PackageReference: DRF8-1800X500TP; PackageDescription: 8-Pin Plastic Small Outline No-Lead, 2 x 2 x 0.8 mm Body, 0.5 mm Pitch, Exposed Pad; Mounting Technology: Surface Mount; Eco-Plan: Green (RoHS & no Sb/Br); Protocols: SATA; ESD HBM(kV): 6; Code_JEDEC: MO-229; ComponentLink1Description: Datasheet; ComponentLink1URL: http://www.ti.com/general/docs/lit/getliterature.tsp?genericPartNumber=SN75LVCP600&fileType=pdf; ComponentLink2Description: Package Specification; ComponentLink2URL: http://www.ti.com/lit/ml/mpds150d/mpds150d.pdf
footprint DRF8-1800X500TP (SON, 8-Leads, Body 2x2mm, Pitch 0.5mm, Thermal Pad 1.8x0.3/0.5mm, TI Recommended)
pins: 1 VCC (power) "Positive supply should be 3.3 V '+/-10%", 2 RX+ (in) "Non-inverting and inverting VML differential inputs. These pins are tied to an internal voltage bias by dual termination resistor circuit.", 3 RX- (in) "Non-inverting and inverting VML differential inputs. These pins are tied to an internal voltage bias by dual termination resistor circuit.", 4 EQ (in) "Selects equalization settings per Table 1. Internally tied to GND", 5 GND (power) "Supply ground", 6 TX- (out) "Non-inverting and inverting VML differential outputs. These pins are tied to an internal voltage bias by dual termination resistor circuit.", 7 TX+ (out) "Non-inverting and inverting VML differential outputs. These pins are tied to an internal voltage bias by dual termination resistor circuit.", 8 DE (in) "Selects de-emphasis settings per Table 1. Internally tied to GND.", 9 EP (power) "Exposed Thermal Pad"

## SN75LVCP600DRFT
designator U?
6.0 Gbps SATA PC Board and Cable Equalizer, 1 Channel, 0 to 85 degC, 8-Pin WSON (DRF), Green (RoHS & no Sb/Br); PartNumber: SN75LVCP600DRFT; Manufacturer: Texas Instruments; Speed(Max)(Gbps): 6; Number of Channels: 1; ICC(Max)(mA): 40; Function: Redriver; DatasheetVersion: SLLSE63; PackageVersion: revE, Oct-2010; PackageReference: DRF8-1800X500TP; PackageDescription: 8-Pin Plastic Small Outline No-Lead, 2 x 2 x 0.8 mm Body, 0.5 mm Pitch, Exposed Pad; Mounting Technology: Surface Mount; Eco-Plan: Green (RoHS & no Sb/Br); Protocols: SATA; ESD HBM(kV): 6; Code_JEDEC: MO-229; ComponentLink1Description: Datasheet; ComponentLink1URL: http://www.ti.com/general/docs/lit/getliterature.tsp?genericPartNumber=SN75LVCP600&fileType=pdf; ComponentLink2Description: Package Specification; ComponentLink2URL: http://www.ti.com/lit/ml/mpds150d/mpds150d.pdf
footprint DRF8-1800X500TP (SON, 8-Leads, Body 2x2mm, Pitch 0.5mm, Thermal Pad 1.8x0.3/0.5mm, TI Recommended)
pins: 1 VCC (power) "Positive supply should be 3.3 V '+/-10%", 2 RX+ (in) "Non-inverting and inverting VML differential inputs. These pins are tied to an internal voltage bias by dual termination resistor circuit.", 3 RX- (in) "Non-inverting and inverting VML differential inputs. These pins are tied to an internal voltage bias by dual termination resistor circuit.", 4 EQ (in) "Selects equalization settings per Table 1. Internally tied to GND", 5 GND (power) "Supply ground", 6 TX- (out) "Non-inverting and inverting VML differential outputs. These pins are tied to an internal voltage bias by dual termination resistor circuit.", 7 TX+ (out) "Non-inverting and inverting VML differential outputs. These pins are tied to an internal voltage bias by dual termination resistor circuit.", 8 DE (in) "Selects de-emphasis settings per Table 1. Internally tied to GND.", 9 EP (power) "Exposed Thermal Pad"

## SN75LVCP600SDSKR
designator U?
1.5 / 3.0 / 6.0 Gbps SATA / SAS Redriver, 1 Channel, -40 to 85 degC, 10-Pin SON (DSK), Green (RoHS & no Sb/Br); PartNumber: SN75LVCP600SDSKR; Manufacturer: Texas Instruments; Protocols: SAS, SATA; Speed(Max)(Gbps): 6; Number of Channels: 1; ICC(Max)(mA): 45; ESD HBM(kV): 9; DatasheetVersion: SLLSE81; PackageVersion: revA, Mar-2007; PackageReference: DSK10-2050X1250TP; PackageDescription: 10-Pin Plastic Small Outline No-Lead, 2.5 x 2.5 x 0.8 mm Body, 0.5 mm Pitch, Exposed Pad; Mounting Technology: Surface Mount; Eco-Plan: Green (RoHS & no Sb/Br); Function: Redriver; ComponentLink1Description: Datasheet; ComponentLink1URL: http://www.ti.com/general/docs/lit/getliterature.tsp?genericPartNumber=SN75LVCP600S&fileType=pdf; ComponentLink2Description: Package Specification; ComponentLink2URL: http://www.ti.com/lit/ml/mpds326/mpds326.pdf
footprint DSK10-2050X1250TP (SON, 10-Leads, Body 2.5x2.5mm, Pitch 0.5mm, Thermal Pad 2.05x1.25mm)
pins: 1 MODE (in) "Selects SATA or SAS output levels per Table 2. Internally tied to GND", 2 VCC (power) "Positive supply should be 3.3V +/-10%", 3 RX+ (in) "Non-inverting and inverting CML differential inputs. These pins are tied to an internal voltage bias by dual termination-resistor circuit.", 4 RX- (in) "Non-inverting and inverting CML differential inputs. These pins are tied to an internal voltage bias by dual termination-resistor circuit.", 5 EQ (in) "Selects equalization settings per Table 2. Internally tied to GND.", 6 GND (power) "Supply ground", 7 TX- (out) "Non-inverting and inverting CML differential outputs. These pins are tied to an internal voltage bias by dual termination-resistor circuit.", 8 TX+ (out) "Non-inverting and inverting CML differential outputs. These pins are tied to an internal voltage bias by dual termination-resistor circuit.", 9 DE (in) "Selects de-emphasis settings per Table 2. Internally tied to GND.", 10 SQ_TH (in) "Selects squelch threshold settings per Table 2. Internally tied to GND", 11 EP "Exposed Thermal Pad"

## SN75LVCP600SDSKT
designator U?
1.5 / 3.0 / 6.0 Gbps Single Channel SATA / SAS Redriver, 6 Gbps, 1 Channel, -40 to 85 degC, 10-Pin SON (DSK), Green (RoHS & no Sb/Br); PartNumber: SN75LVCP600SDSKT; Manufacturer: Texas Instruments; Protocols: SAS, SATA; Speed(Max)(Gbps): 6; Number of Channels: 1; ICC(Max)(mA): 45; ESD HBM(kV): 9; DatasheetVersion: SLLSE81; PackageVersion: revA, Mar-2007; PackageReference: DSK10-2050X1250TP; PackageDescription: 10-Pin Plastic Small Outline No-Lead, 2.5 x 2.5 x 0.8 mm Body, 0.5 mm Pitch, Exposed Pad; Mounting Technology: Surface Mount; Eco-Plan: Green (RoHS & no Sb/Br); Function: Redriver; ComponentLink1Description: Datasheet; ComponentLink1URL: http://www.ti.com/general/docs/lit/getliterature.tsp?genericPartNumber=SN75LVCP600S&fileType=pdf; ComponentLink2Description: Package Specification; ComponentLink2URL: http://www.ti.com/lit/ml/mpds326/mpds326.pdf
footprint DSK10-2050X1250TP (SON, 10-Leads, Body 2.5x2.5mm, Pitch 0.5mm, Thermal Pad 2.05x1.25mm)
pins: 1 MODE (in) "Selects SATA or SAS output levels per Table 2. Internally tied to GND", 2 VCC (power) "Positive supply should be 3.3V +/-10%", 3 RX+ (in) "Non-inverting and inverting CML differential inputs. These pins are tied to an internal voltage bias by dual termination-resistor circuit.", 4 RX- (in) "Non-inverting and inverting CML differential inputs. These pins are tied to an internal voltage bias by dual termination-resistor circuit.", 5 EQ (in) "Selects equalization settings per Table 2. Internally tied to GND.", 6 GND (power) "Supply ground", 7 TX- (out) "Non-inverting and inverting CML differential outputs. These pins are tied to an internal voltage bias by dual termination-resistor circuit.", 8 TX+ (out) "Non-inverting and inverting CML differential outputs. These pins are tied to an internal voltage bias by dual termination-resistor circuit.", 9 DE (in) "Selects de-emphasis settings per Table 2. Internally tied to GND.", 10 SQ_TH (in) "Selects squelch threshold settings per Table 2. Internally tied to GND", 11 EP "Exposed Thermal Pad"

## SN75LVCP601RTJR
designator U?
Two-Channel SATA 6 Gb/s Redriver, 6 Gbps, 0 to 85 degC, 20-Pin WQFN (RTJ), Green (RoHS & no Sb/Br); PartNumber: SN75LVCP601RTJR; Manufacturer: Texas Instruments; Speed(Max)(Gbps): 6; Number of Channels: 2; ICC(Max)(mA): 80; ESD HBM(kV): 10; Sleep Mode Power(mW): 5; Function: Redriver/Equalizer; DatasheetVersion: SLLSE41B; PackageVersion: revF, Jul-2011; PackageReference: RTJ20-2150X2150TP; PackageDescription: 20-Pin Plastic Quad Flatpack No-Lead, 4 x 4 mm Body, 0.5 mm Pitch; Mounting Technology: Surface Mount; Eco-Plan: Green (RoHS & no Sb/Br); Protocols: SATA; ComponentLink1Description: Datasheet; ComponentLink1URL: http://www.ti.com/general/docs/lit/getliterature.tsp?genericPartNumber=SN75LVCP601&fileType=pdf; ComponentLink2Description: Package Specification; ComponentLink2URL: http://www.ti.com/lit/ml/mpqf156e/mpqf156e.pdf
footprint RTJ20-2150X2150TP (QFN, 20-Leads, Body 4x4mm, Pitch 0.5mm, Thermal Pad 2.15x2.15mm, TI Recommended)
pins: 1 RX1P (in) "non-inverting", 2 RX1N (in) "inverting", 3 GND (power) "Ground", 4 TX2N (out) "inverting", 5 TX2P (out) "non-inverting", 6 DEW2 (in) "De-emphasis width cntrl.-CH 2", 7 EN (in) "Enable", 8 DE2 (in) "De-emphasis CH2", 9 DE1 (in) "De-emphasis CH1", 10 VCC (power) "3.3-V supply", 11 RX2P (in) "non-inverting", 12 RX2N (in) "inverting", 13 GND (power) "Ground", 14 TX1N (out) "inverting", 15 TX1P (out) "non-inverting", 16 DEW1 (in) "De-emphasis width cntrl.-CH 1", 17 EQ1 (in) "EQ control CH 1", 18 GND (power) "Ground", 19 EQ2 (in) "EQ control CH 2", 20 VCC (power) "3.3-V supply", 21 EP "Exposed Thermal Pad"

## SN75LVCP601RTJT
designator U?
Two-Channel SATA 6 Gb/s Redriver, 6 Gbps, 0 to 85 degC, 20-Pin WQFN (RTJ), Green (RoHS & no Sb/Br); PartNumber: SN75LVCP601RTJT; Manufacturer: Texas Instruments; Speed(Max)(Gbps): 6; Number of Channels: 2; ICC(Max)(mA): 80; ESD HBM(kV): 10; Sleep Mode Power(mW): 5; Function: Redriver/Equalizer; DatasheetVersion: SLLSE41B; PackageVersion: revF, Jul-2011; PackageReference: RTJ20-2150X2150TP; PackageDescription: 20-Pin Plastic Quad Flatpack No-Lead, 4 x 4 mm Body, 0.5 mm Pitch; Mounting Technology: Surface Mount; Eco-Plan: Green (RoHS & no Sb/Br); Protocols: SATA; ComponentLink1Description: Datasheet; ComponentLink1URL: http://www.ti.com/general/docs/lit/getliterature.tsp?genericPartNumber=SN75LVCP601&fileType=pdf; ComponentLink2Description: Package Specification; ComponentLink2URL: http://www.ti.com/lit/ml/mpqf156e/mpqf156e.pdf
footprint RTJ20-2150X2150TP (QFN, 20-Leads, Body 4x4mm, Pitch 0.5mm, Thermal Pad 2.15x2.15mm, TI Recommended)
pins: 1 RX1P (in) "non-inverting", 2 RX1N (in) "inverting", 3 GND (power) "Ground", 4 TX2N (out) "inverting", 5 TX2P (out) "non-inverting", 6 DEW2 (in) "De-emphasis width cntrl.-CH 2", 7 EN (in) "Enable", 8 DE2 (in) "De-emphasis CH2", 9 DE1 (in) "De-emphasis CH1", 10 VCC (power) "3.3-V supply", 11 RX2P (in) "non-inverting", 12 RX2N (in) "inverting", 13 GND (power) "Ground", 14 TX1N (out) "inverting", 15 TX1P (out) "non-inverting", 16 DEW1 (in) "De-emphasis width cntrl.-CH 1", 17 EQ1 (in) "EQ control CH 1", 18 GND (power) "Ground", 19 EQ2 (in) "EQ control CH 2", 20 VCC (power) "3.3-V supply", 21 EP "Exposed Thermal Pad"

## TLK1101ERGPR
designator U?
11.3 Gbps Cable and PC Board Equalizer, 1 Channel, AC-Coupled to AC-Coupled, 3.3V, -40 to 100 degC, 20- Pin QFN (RGP), Green (RoHS& no Sb/Br); PartNumber: TLK1101ERGPR; Manufacturer: Texas Instruments; Protocols: 10GbE, 10GFC; Speed(Max)(Gbps): 11.3; Number of Channels: 1; SupplyVoltage(Volt): 3.3; ICC(Max)(mA): 120; OUT SigCon: DE; ESD HBM(kV): 2.5; DatasheetVersion: SLLS845A; PackageVersion: revG, Jul-2011; PackageReference: RGP20-2700X2700TP; PackageDescription: 20-Pin Plastic Quad Flatpack No-Lead, 4 x 4 mm Body, 0.5 mm Pitch; Mounting Technology: Surface Mount; Eco-Plan: Green (RoHS & no Sb/Br); Input Compatibility: AC-Coupled; Output Compatibility: AC-Coupled; Function: Equalizer; Code_JEDEC: MO-220; ComponentLink1Description: Datasheet; ComponentLink1URL: http://www.ti.com/general/docs/lit/getliterature.tsp?genericPartNumber=TLK1101E&fileType=pdf; ComponentLink2Description: Package Specification; ComponentLink2URL: http://www.ti.com/litv/pdf/mpqf126f
footprint RGP20-2700X2700TP (QFN, 20-Leads, Body 4x4mm, Pitch 0.5mm, Thermal Pad 2.7x2.7mm, TI Recommended)
pins: 1 GND (power) "Circuit ground.", 2 DIN+ (in) "Non-inverted data input. On-chip 50ohm terminated to VCC.", 3 DIN- (in) "Inverted data input. On-chip 50ohm terminated to VCC.", 4 GND (power) "Circuit ground.", 5 LOSL (in) "LOS threshold control. A controlling voltage on this pin adjusts the LOS assert and de-assert levels.", 6 VTH (in) "Input signal threshold control. A controlling voltage of 0V to 1V on this pin adjusts the input signal threshold. Leave open for the default 0V differential threshold.", 7 SDA (io) "Bidirectional serial data pin for the SDA/SCL interface. Open drain. Always connect to a pull-up resistor.", 8 SCL (in) "Serial clock pin for the SDA/SCL interface. Always connect to a pull-up resistor.", 9 DIS (in) "Disables CML output stage when set to high level. Internally pulled down.", 10 LOS (out) "High level indicates that the input signal amplitude is below the programmed threshold level. Open drain. Requires an external 10kohm pull-up resistor to VCC for proper operation.", 11 LOSR (in) "LOS range select. Set to high level or leave open for upper range, or set to low level for lower range.", 12 VCC (power) "3.3V +/- 10% supply voltage.", 13 DOUT- (out) "Inverted data output. On-chip 50ohm back-terminated to VCC.", 14 DOUT+ (out) "Non-inverted data output. On-chip 50ohm back-terminated to VCC.", 15 VCC (power) "3.3V +/- 10% supply voltage.", 16 SWG (in) "Output voltage swing control. Set to high level for high swing, set to low level for low swing, or leave open for medium swing.", 17 LN1 (in) "Interconnect length select. Supports two logic levels: high and low. (see Table 2)", 18 LN0 (in) "Interconnect length select. Supports two logic levels: high and low. (see Table 2)", 19 DE1 (in) "Output signal de-emphasis control. Supports three logic levels: high, low, and open. (see Table 1)", 20 DE0 (in) "Output signal de-emphasis control. Supports three logic levels: high, low, and open. (see Table 1)", 21 EP (power) "Exposed die pad (EP) must be grounded."